# Altium schematic symbol library 10129378-910002BLF.SchLib: 1 symbol
Pins are listed as number, name and electrical type; pins without a type are passive.

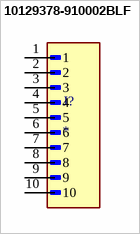
[diagram p0: symbol 10129378-910002BLF]

## 10129378-910002BLF
designator J?
MP: 10129378-910002BLF; Package: None; Price: None; Value: *; Availability: Unavailable
footprint AMPHENOL_10129378-910002BLF
pins: 1, 2, 3, 4, 5, 6, 7, 8, 9, 10